# Altium schematic symbol library SerialKM.SchLib: 2 symbols
Pins are listed as number, name and electrical type; pins without a type are passive.

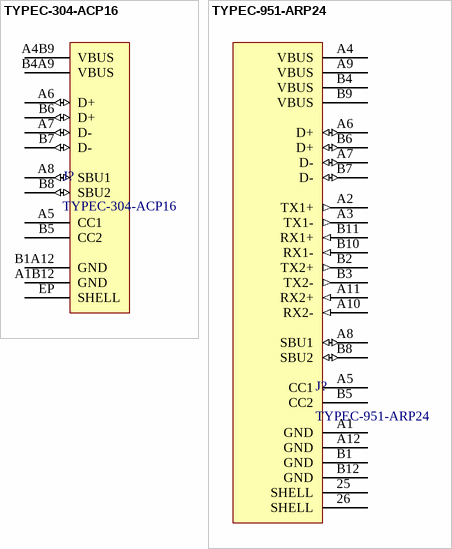
[diagram p0: symbols TYPEC-304-ACP16 to TYPEC-951-ARP24]

## TYPEC-304-ACP16
designator J?
Xunpu TYPEC-304-ACP16 USB Type-C  Socket 16P SMD; Supplier 1: LCSC; Supplier Part Number 1: C2982555
footprint TYPEC-304-ACP16
pins: A1B12 GND, A4B9 VBUS, A5 CC1, A6 D+ (io), A7 D- (io), A8 SBU1 (io), B1A12 GND, B4A9 VBUS, B5 CC2, B6 D+ (io), B7 D- (io), B8 SBU2 (io), EP SHELL

## TYPEC-951-ARP24
designator J?
Xunpu TYPEC-951-ARP24 USB Type-C Male Connector SMD
footprint TYPEC-951-ARP24
pins: 25 SHELL, 26 SHELL, A1 GND, A2 TX1+ (out), A3 TX1- (out), A4 VBUS (power), A5 CC1, A6 D+ (io), A7 D- (io), A8 SBU1 (io), A9 VBUS (power), A10 RX2- (in), A11 RX2+ (in), A12 GND, B1 GND, B2 TX2+ (out), B3 TX2- (out), B4 VBUS (power), B5 CC2, B6 D+ (io), B7 D- (io), B8 SBU2 (io), B9 VBUS (power), B10 RX1- (in), B11 RX1+ (in), B12 GND